# EAGLE library part 0705530005 (library Molex Right Angle)
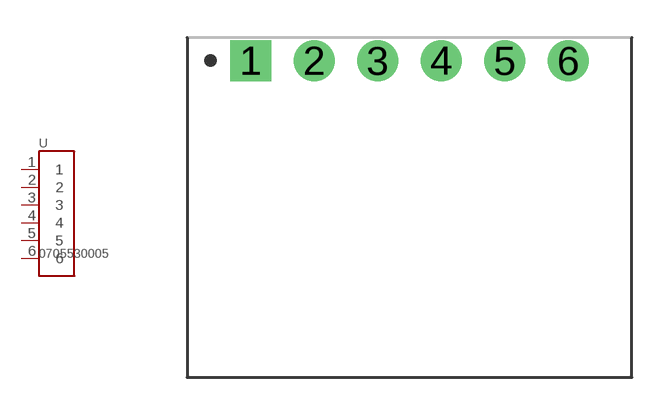
[diagram p0: symbol with the pads of MOLEX_0705530005; footprint MOLEX_0705530005]

Designator prefix -

## 0705530005  [MOLEX_0705530005]
1  1  pas
2  2  pas
3  3  pas
4  4  pas
5  5  pas
6  6  pas

## Footprint MOLEX_0705530005 (pad centres in mm)
drill 1.09 square: 1 0,0
drill 1.09: 2 2.54,0; 3 5.08,0; 4 7.62,0; 5 10.16,0; 6 12.7,0